# EAGLE library part TPS61022 (library Eagle_CAD_parts)
8-A Boost converter with 0.5-V ultra-low input voltage
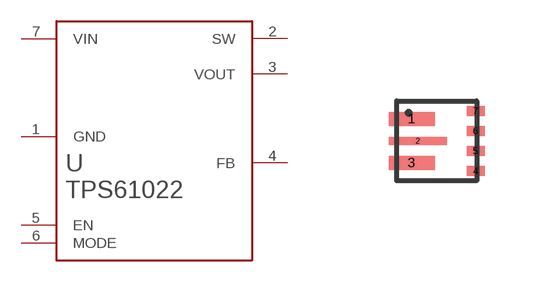
[diagram p36: symbol with the pads of 7-VQFN; footprint 7-VQFN]

Designator prefix U

## TPS61022RWUR (DIGIKEY_PART_NUMBER: 296-TPS61022RWURCT-ND; MANUFACTURER_PART_NUMBER: TPS61022RWUR)  [7-VQFN]
1  GND
2  SW
3  VOUT
4  FB
5  EN
6  MODE
7  VIN

## Footprint 7-VQFN (pad centres in mm)
smd 1.15 x 0.35: 1 -0.625,0.55; 3 -0.625,-0.55
smd 1.45 x 0.2: 2 -0.475,0
smd 0.45 x 0.25: 4 0.975,-0.75; 5 0.975,-0.25; 6 0.975,0.25; 7 0.975,0.75